# EAGLE library part S2000 (library Octanis1_EPS)
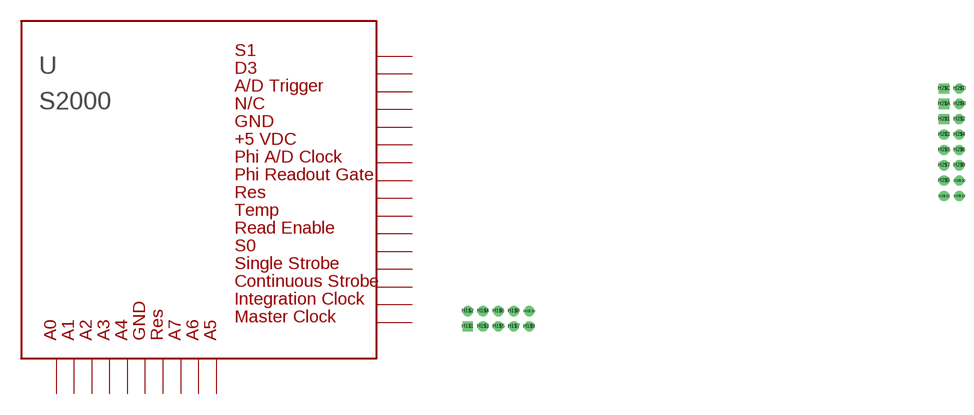
[diagram p10: symbol with the pads of S2000; footprint S2000]

Designator prefix -

## S2000  [S2000]
H1$1  H1$1
H1$2  H1$2
H1$3  H1$3
H1$4  H1$4
H1$5  H1$5
H1$6  H1$6
H1$7  H1$7
H1$8  H1$8
H1$9  H1$9
H1$10  H1$10
H2$1  H2$1
H2$2  H2$2
H2$3  H2$3
H2$4  H2$4
H2$5  H2$5
H2$6  H2$6
H2$7  H2$7
H2$8  H2$8
H2$9  H2$9
H2$10  H2$10
H2$11  H2$11
H2$12  H2$12
H2$A  H2$A
H2$B  H2$B
H2$C  H2$C
H2$D  H2$D

## Footprint S2000 (pad centres in mm)
drill 1 pad 1.676 square: H1$1 0,0; H2$1 78.74,34.29; H2$A 78.74,36.83; H2$C 78.74,39.37
drill 1 pad 1.676: H1$2 0,2.54; H1$3 2.54,0; H1$4 2.54,2.54; H1$5 5.08,0; H1$6 5.08,2.54; H1$7 7.62,0; H1$8 7.62,2.54; H1$9 10.16,0; H1$10 10.16,2.54; H2$2 81.28,34.29; H2$3 78.74,31.75; H2$4 81.28,31.75; H2$5 78.74,29.21; H2$6 81.28,29.21; H2$7 78.74,26.67; H2$8 81.28,26.67; H2$9 78.74,24.13; H2$10 81.28,24.13; H2$11 78.74,21.59; H2$12 81.28,21.59; H2$B 81.28,36.83; H2$D 81.28,39.37